# EAGLE library part XFMR_24VA_FLAT (library wheat)
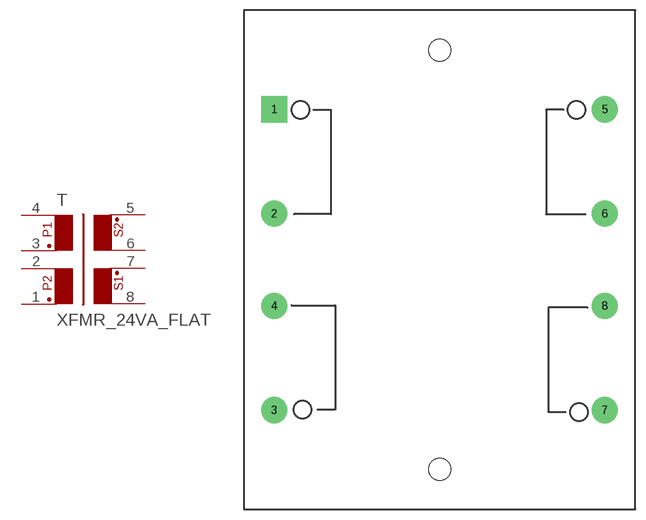
[diagram p247: symbol with the pads of XFMR_FLAT_25VA; footprint XFMR_FLAT_25VA]

Designator prefix T

## XFMR_24VA_FLAT  [XFMR_FLAT_25VA]
1  1  pas
2  2  pas
3  3  pas
4  4  pas
5  5  pas
6  6  pas
7  7  pas
8  8  pas

## Footprint XFMR_FLAT_25VA (pad centres in mm)
drill 1.778 pad 3.81 square: 1 -24.13,21.971
drill 1.778 pad 3.81: 2 -24.13,6.731; 3 -24.13,-21.971; 4 -24.13,-6.731; 5 24.13,21.971; 6 24.13,6.731; 7 24.13,-21.971; 8 24.13,-6.731
hole 3.2 at 0,30.607
hole 3.2 at 0,-30.607